# Altium footprint library PCB.PcbLib: 25 footprints (part 2 of 2)
Each footprint in its own frame and in the unit in brackets; x right, y up, seen from the top. Pads: shape width x height; smd on the part's side, far side on the other; paste and mask are expansions set on the pad; w line width, h text height; cw(c..) or ccw(c..) is an arc to the next point about the centre after c.
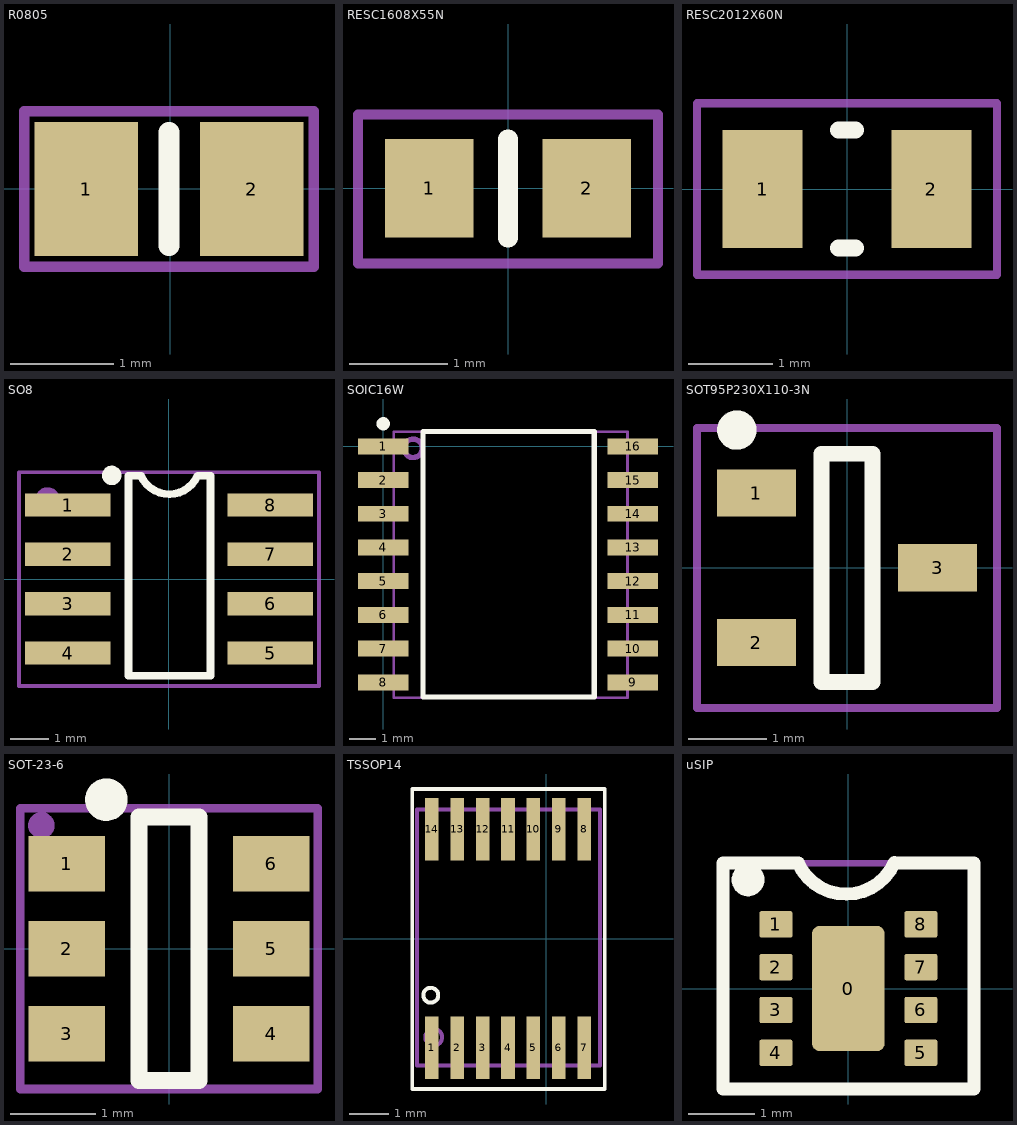
[diagram p1: the footprints below, top view; thin cyan lines are the x and y axes]

## R0805 [mm] "R0805"
pads (2):
  rect 1x1.3 smd: 1(-0.813,0) 2(0.787,0)
Top Overlay:
  lines w0.2: -0.013,-0.55 -0.013,-0.275 -0.013,0.275 -0.013,0.55
Mechanical 4:
  lines w0.1: -1.413,-0.75 1.387,-0.75 1.387,0.75 -1.413,0.75 -1.413,-0.75
  text ".Designator" at -1.27,-0.508 h1
3D body "R0805.STEP": height 0.78, standoff 0, extent -1,-0.625 1,0.625

## RESC1608X55N [mm] "Chip Resistor, EIA 0603, Metric 1608, Body 1.6x0.8mm, IPC Medium Density"
height 0.55
pads (2):
  rect 0.9x1 smd: 1(-0.8,0) 2(0.8,0)
Top Overlay:
  lines w0.2: 0,-0.5 0,0.5
Mechanical 4:
  lines w0.1: -1.524,-0.762 1.524,-0.762 1.524,0.75 -1.524,0.75 -1.524,-0.762
  text ".Designator" at -1.397,-0.508 h1
3D body "RESC1608X55N.stp": height 0.55, standoff 0, extent -0.875,-0.475 0.875,0.475

## RESC2012X60N [mm] "Chip Resistor, EIA 0805, Metric 2012, Body 2.0x1.2mm, IPC Medium Density"
height 0.6
pads (2):
  rect 0.95x1.4 smd: 1(-1,0) 2(1,0)
Top Overlay:
  lines w0.2: -0.1,-0.7 0.1,-0.7 ; -0.1,0.7 0.1,0.7
Mechanical 4:
  lines w0.1: -1.778,-1.016 -1.778,1.016 1.778,1.016 1.778,-1.016 -1.778,-1.016
  text ".Designator" at -1.524,-0.508 h1
3D body "RESC2012X60N.stp": height 0.6, standoff 0, extent -1.1,-0.675 1.1,0.675

## SO8 [mm]
pads (8):
  rect 2.2x0.6 smd: 1(-2.603,1.905) 2(-2.603,0.635) 3(-2.603,-0.635) 4(-2.603,-1.905) 5(2.603,-1.905) 6(2.603,-0.635) 7(2.603,0.635) 8(2.603,1.905)
Top Overlay:
  circle w0.25: c-1.473,2.667 r0.125
  lines w0.2: -1.041,-2.489 1.067,-2.489 1.067,2.662 0.737,2.662 cw(c0.007,2.982) -0.722,2.656 -1.041,2.656 -1.041,-2.489
Mechanical 4:
  circle w0.2: c-3.125,2.05 r0.212
  lines w0.1: -3.861,-2.75 3.861,-2.75 3.861,2.75 -3.861,2.75 -3.861,-2.75
  text ".Designator" at 0,0 h1
3D body "so8.STEP": height 1.84, standoff 0.08, extent -3.068,-2.425 3.068,2.465

## SOIC16W [mm] "SOIC, 16-Leads, Body 9,90x3,90mm, Pitch 1,27mm, IPC Medium Density (Narrow)"
height 1.75
pads (16):
  rect 1.9x0.6 smd: 1(0,0) 2(0,-1.27) 3(0,-2.54) 4(0,-3.81) 5(0,-5.08) 6(0,-6.35) 7(0,-7.62) 8(0,-8.89) 9(9.4,-8.89) 10(9.4,-7.62) 11(9.4,-6.35) 12(9.4,-5.08) 13(9.4,-3.81) 14(9.4,-2.54) 15(9.4,-1.27) 16(9.4,0)
Top Overlay:
  circle w0.25: c0,0.85 r0.125
  lines w0.2: 1.5,-9.445 7.95,-9.445 7.95,0.555 1.5,0.555 1.5,-9.445
Mechanical 4:
  circle w0.2: c1.125,-0.075 r0.347
  lines w0.1: 0.4,-9.475 9.2,-9.475 9.2,0.55 0.4,0.55 0.4,-9.475
  text ".Designator" at 3.625,-4.875 h1
3D body "User Library-so16w.STEP": height 3.5, standoff 0, extent -0.35,-9.562 9.95,0.638

## SOT95P230X110-3N [mm] "SOT23, 3 pin, Pitch 0.95mm - 1.3mm W X 2.9mm L X 1.1mm H, IPC Medium Density"
height 1.1
pads (3):
  rect 1x0.6 smd: 1(-1.15,0.95) 2(-1.15,-0.95) 3(1.15,0)
Top Overlay:
  circle w0.25: c-1.4,1.75 r0.125
  lines w0.2: -0.325,-1.45 0.325,-1.45 0.325,1.45 -0.325,1.45 -0.325,-1.45
Mechanical 4:
  lines w0.1: -1.905,-1.778 1.905,-1.778 1.905,1.778 -1.905,1.778 -1.905,-1.778
  text ".Designator" at -1.016,-0.254 h1
3D body "SOT95P240X110-3N.stp": height 1.1, standoff 0, extent -1.166,-1.5 1.334,1.5

## SOT-23-6 [mm] "SOT23, 6-Leads, Body 3x1.5mm, Pitch 1mm, Lead Span 2.7mm, IPC High Density_LT6654AHS6-1.25#TRMPBF"
height 1.1
pads (6):
  rect 0.9x0.65 smd: 1(-1.2,1) 2(-1.2,0) 3(-1.2,-1) 4(1.2,-1) 5(1.2,0) 6(1.2,1)
Top Overlay:
  circle w0.25: c-0.737,1.753 r0.125
  lines w0.2: -0.35,-1.55 -0.35,1.55 0.35,1.55 0.35,-1.55 -0.35,-1.55
Mechanical 4:
  circle w0.2: c-1.5,1.45 r0.056
  lines w0.1: -1.75,-1.65 -1.75,1.65 1.75,1.65 1.75,-1.65 -1.75,-1.65
  text ".designator" at -1.016,-0.381 h1
3D body "SW3dPS-SOT-23-6.STEP": height 1.09, standoff 0, extent -1.213,-1.397 1.213,1.397

## TSSOP14 [mm]
pads (14):
  rect 0.35x1.6 smd: 1(-2.925,-2.8) 2(-2.275,-2.8) 3(-1.625,-2.8) 4(-0.975,-2.8) 5(-0.325,-2.8) 6(0.325,-2.8) 7(0.975,-2.8) 8(0.975,2.8) 9(0.325,2.8) 10(-0.325,2.8) 11(-0.975,2.8) 12(-1.625,2.8) 13(-2.275,2.8) 14(-2.925,2.8)
Top Overlay:
  circle w0.1: c-2.95,-1.45 r0.19
  lines w0.1: -3.425,-3.85 1.5,-3.85 1.5,3.825 -3.425,3.825 -3.425,-3.85
Mechanical 4:
  circle w0.1: c-2.875,-2.525 r0.215
  lines w0.1: -3.3,-3.25 -3.3,3.3 1.375,3.3 1.375,-3.25 -3.3,-3.25
  text ".Designator" at -2.15,-0.375 h1
3D body "SW3dPS-TSS0P8.STEP": height 1.09, standoff 0, extent -1.425,-3.065 1.575,3.215
3D body "SW3dPS-TSS0P8.STEP": height 1.09, standoff 0, extent -3.375,-3.065 -0.375,3.215

## uSIP [mm]
pads (9):
  rrect20% 1.1x1.9 smd paste-5: 0(0,0)
  rrect15% 0.5x0.4 smd: 1(-1.1,0.975) 2(-1.1,0.325) 3(-1.1,-0.325) 4(-1.1,-0.975) 5(1.1,-0.975) 6(1.1,-0.325) 7(1.1,0.325) 8(1.1,0.975)
Top Overlay:
  circle w0.25: c-1.524,1.651 r0.125
  lines w0.2: 0.697,1.91 cw(c-0.034,2.231) -0.762,1.905 -1.473,1.905 -1.905,1.905 -1.905,-1.524 1.905,-1.524 1.905,1.905 0.737,1.905
Top Paste:
  pour cut-out: -0.188,0.263 -0.337,0.113 -0.488,0.113 -0.488,0.563 -0.613,0.688
Mechanical 4:
  lines w0.1: -1.905,-1.524 -1.905,1.905 1.905,1.905 1.905,-1.524 -1.905,-1.524
  lines w0.2: -1.524,1.524 ccw(c-1.736,1.531) -1.524,1.531
  text ".Designator" at -1.6,-0.6 h1
3D body: height 0.4, standoff 0, extent -1.397,-1.397 1.397,1.397
3D body: height 1.4, standoff 0, extent -0.889,-0.889 0.889,0.889